# Altium footprint library Capacitors.PcbLib: 4 footprints
Each footprint in its own frame and in the unit in brackets; x right, y up, seen from the top. Pads: shape width x height; smd on the part's side, far side on the other; paste and mask are expansions set on the pad; w line width, h text height; cw(c..) or ccw(c..) is an arc to the next point about the centre after c.
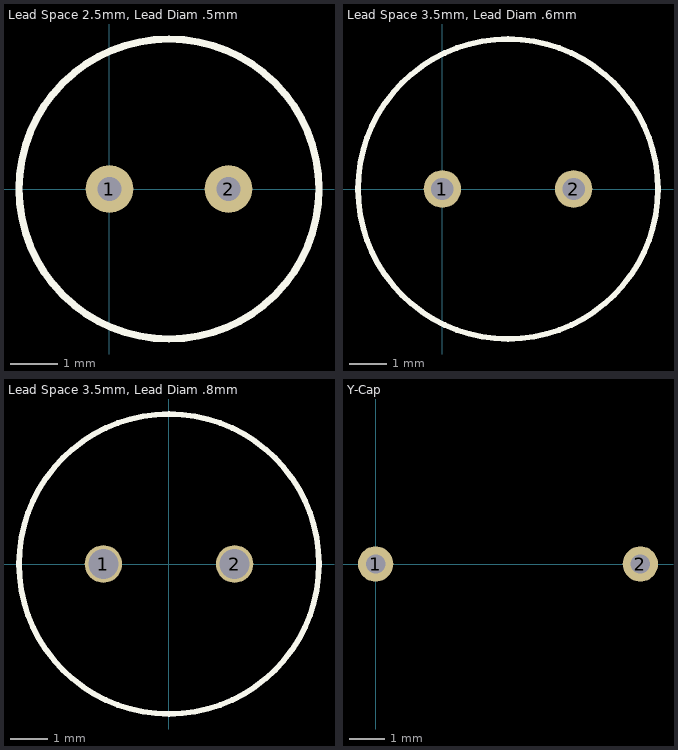
[diagram p0: the footprints below, top view; thin cyan lines are the x and y axes]

## Lead Space 2.5mm, Lead Diam .5mm [mm] "Lead Space 2.5mm, Lead Diam .5mm"
pads (2):
  round 1 hole 0.5: 1(0,0) 2(2.5,0)
Top Overlay:
  circle w0.15: c1.25,0 r3.15
3D body: height 11.2, standoff 0, extent -1.9,-3.147 4.4,3.147

## Lead Space 3.5mm, Lead Diam .6mm [mm] "Lead Space 3.5mm, Lead Diam .6mm"
pads (2):
  round 1 hole 0.6: 1(0,0) 2(3.5,0)
Top Overlay:
  circle w0.15: c1.75,0 r4
3D body: height 11, standoff 0, extent -2.25,-3.997 5.75,3.997

## Lead Space 3.5mm, Lead Diam .8mm [mm] "Lead Space 3.5mm, Lead Diam .8mm"
pads (2):
  round 1 hole 0.8: 1(-1.75,0) 2(1.75,0)
Top Overlay:
  circle w0.15: c0,0 r4
3D body: height 11, standoff 0, extent -4,-3.997 4,3.997

## Y-Cap [mm] "Lead Space 7.5mm, Lead Diam .55mm"
pads (2):
  round 1 hole 0.55: 1(0,0) 2(7.5,0)